# Altium footprint library Coil_WE744025002.PcbLib: 1 footprints
Each footprint in its own frame and in the unit in brackets; x right, y up, seen from the top. Pads: shape width x height; smd on the part's side, far side on the other; paste and mask are expansions set on the pad; w line width, h text height; cw(c..) or ccw(c..) is an arc to the next point about the centre after c.
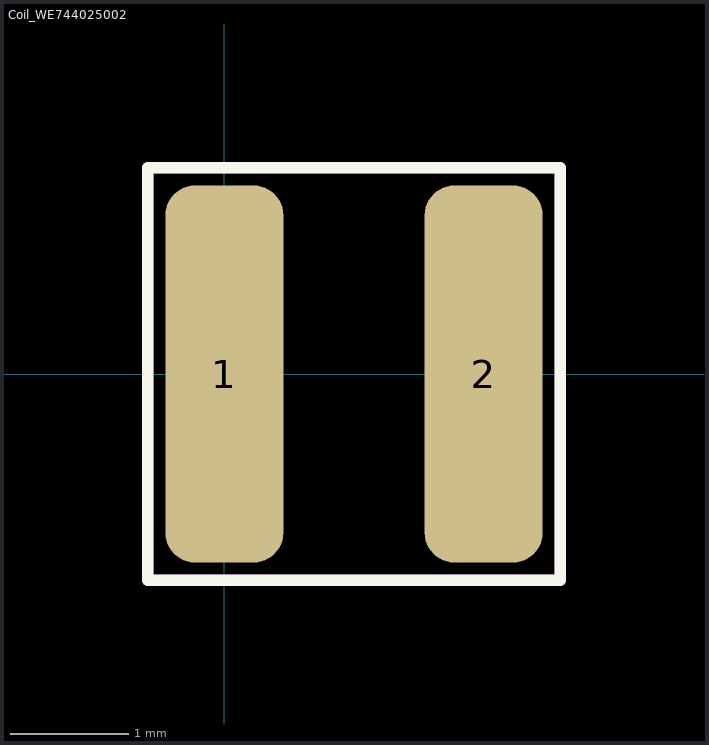
[diagram p0: the footprint, top view; thin cyan lines are the x and y axes]

## Coil_WE744025002 [mm]
pads (2):
  rrect50% 1x3.2 smd: 1(0,0) 2(2.2,0)
Top Overlay:
  lines w0.1: -0.65,-1.75 2.85,-1.75 2.85,1.75 -0.65,1.75 -0.65,-1.75
Mechanical 15:
  lines w0.1: -0.65,-1.75 2.85,-1.75 2.85,1.75 2.825,1.75 -0.65,1.75 -0.65,-1.75
3D body: height 3, standoff 0, extent -0.339,-1.447 2.55,1.447